# Altium schematic symbol library lib.SchLib: 2 symbols
Pins are listed as number, name and electrical type; pins without a type are passive.

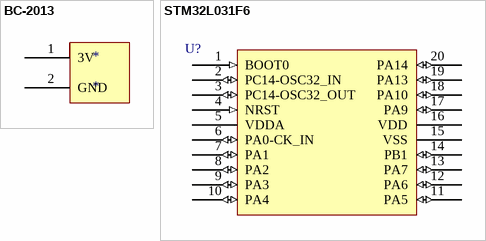
[diagram p0: symbols BC-2013 to STM32L031F6]

## BC-2013
designator *
footprint BC-2013-ND
pins: 1 3V (power), 2 GND (power)

## STM32L031F6
designator U?  (value not drawn)
footprint STM32L031F6 (TSOP, 20-Leads, Body 6,50x4,40mm, Pitch 0,65mm, IPC Medium Density)
pins: 1 BOOT0 (in), 2 PC14-OSC32_IN (io), 3 PC14-OSC32_OUT (io), 4 NRST (in), 5 VDDA (power), 6 PA0-CK_IN (io), 7 PA1 (io), 8 PA2 (io), 9 PA3 (io), 10 PA4 (io), 11 PA5 (io), 12 PA6 (io), 13 PA7 (io), 14 PB1 (io), 15 VSS (power), 16 VDD (power), 17 PA9 (io), 18 PA10 (io), 19 PA13 (io), 20 PA14 (io)